# Altium footprint library CN_TERMINALSTRIP_12P.PcbLib: 1 footprints
Each footprint in its own frame and in the unit in brackets; x right, y up, seen from the top. Pads: shape width x height; smd on the part's side, far side on the other; paste and mask are expansions set on the pad; w line width, h text height; cw(c..) or ccw(c..) is an arc to the next point about the centre after c.
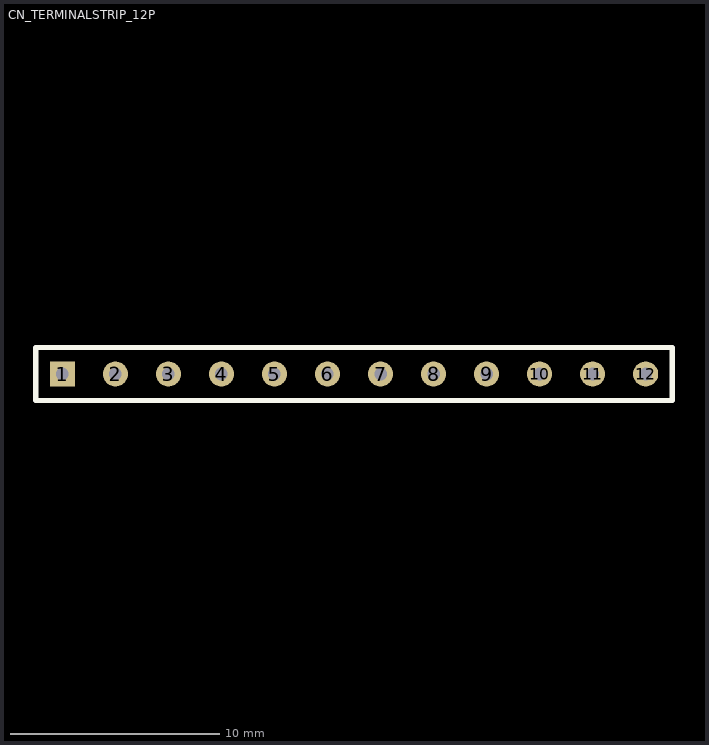
[diagram p0: the footprint, top view; thin cyan lines are the x and y axes]

## CN_TERMINALSTRIP_12P [mm] "TS-112-G-A"
pads (12):
  rect 1.2x1.2 hole 0.6: 1(-1043.94,-797.56)
  round 1.2 hole 0.6: 2(-1041.4,-797.56) 3(-1038.86,-797.56) 4(-1036.32,-797.56) 5(-1033.78,-797.56) 6(-1031.24,-797.56) 7(-1028.7,-797.56) 8(-1026.16,-797.56) 9(-1023.62,-797.56) 10(-1021.08,-797.56) 11(-1018.54,-797.56) 12(-1016,-797.56)
Top Overlay:
  lines w0.254: -1045.21,-798.83 -1045.21,-796.29 -1014.73,-796.29 -1014.73,-798.83 -1045.21,-798.83